# Altium schematic symbol library Connector-ZH-1.5.SchLib: 4 symbols
Pins are listed as number, name and electrical type; pins without a type are passive.

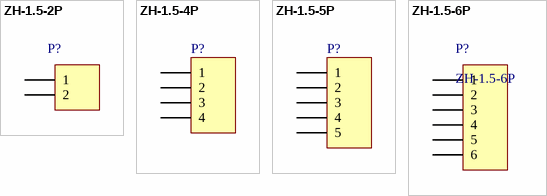
[diagram p0: symbols ZH-1.5-2P to ZH-1.5-6P]

## ZH-1.5-2P
designator P?
footprint ZH-1.5_2P_A
footprint ZH-1.5_2P_AW
pins: 1, 2

## ZH-1.5-4P
designator P?
LatestRevisionDate: 17-Jul-2002; LatestRevisionNote: Re-released for DXP Platform.; Publisher: Altium Limited
footprint ZH-1.5_4P_AW
footprint ZH-1.5_4P_A
pins: 1, 2, 3, 4

## ZH-1.5-5P
designator P?
LatestRevisionDate: 17-Jul-2002; LatestRevisionNote: Re-released for DXP Platform.; Publisher: Altium Limited
footprint ZH-1.5_5P_AW
pins: 1, 2, 3, 4, 5

## ZH-1.5-6P
designator P?
ZH1.5-6P
footprint ZH-1.5_6P_AW
pins: 1, 2, 3, 4, 5, 6